# Altium footprint library PCB Library.PcbLib: 18 footprints (part 1 of 2)
Each footprint in its own frame and in the unit in brackets; x right, y up, seen from the top. Pads: shape width x height; smd on the part's side, far side on the other; paste and mask are expansions set on the pad; w line width, h text height; cw(c..) or ccw(c..) is an arc to the next point about the centre after c.
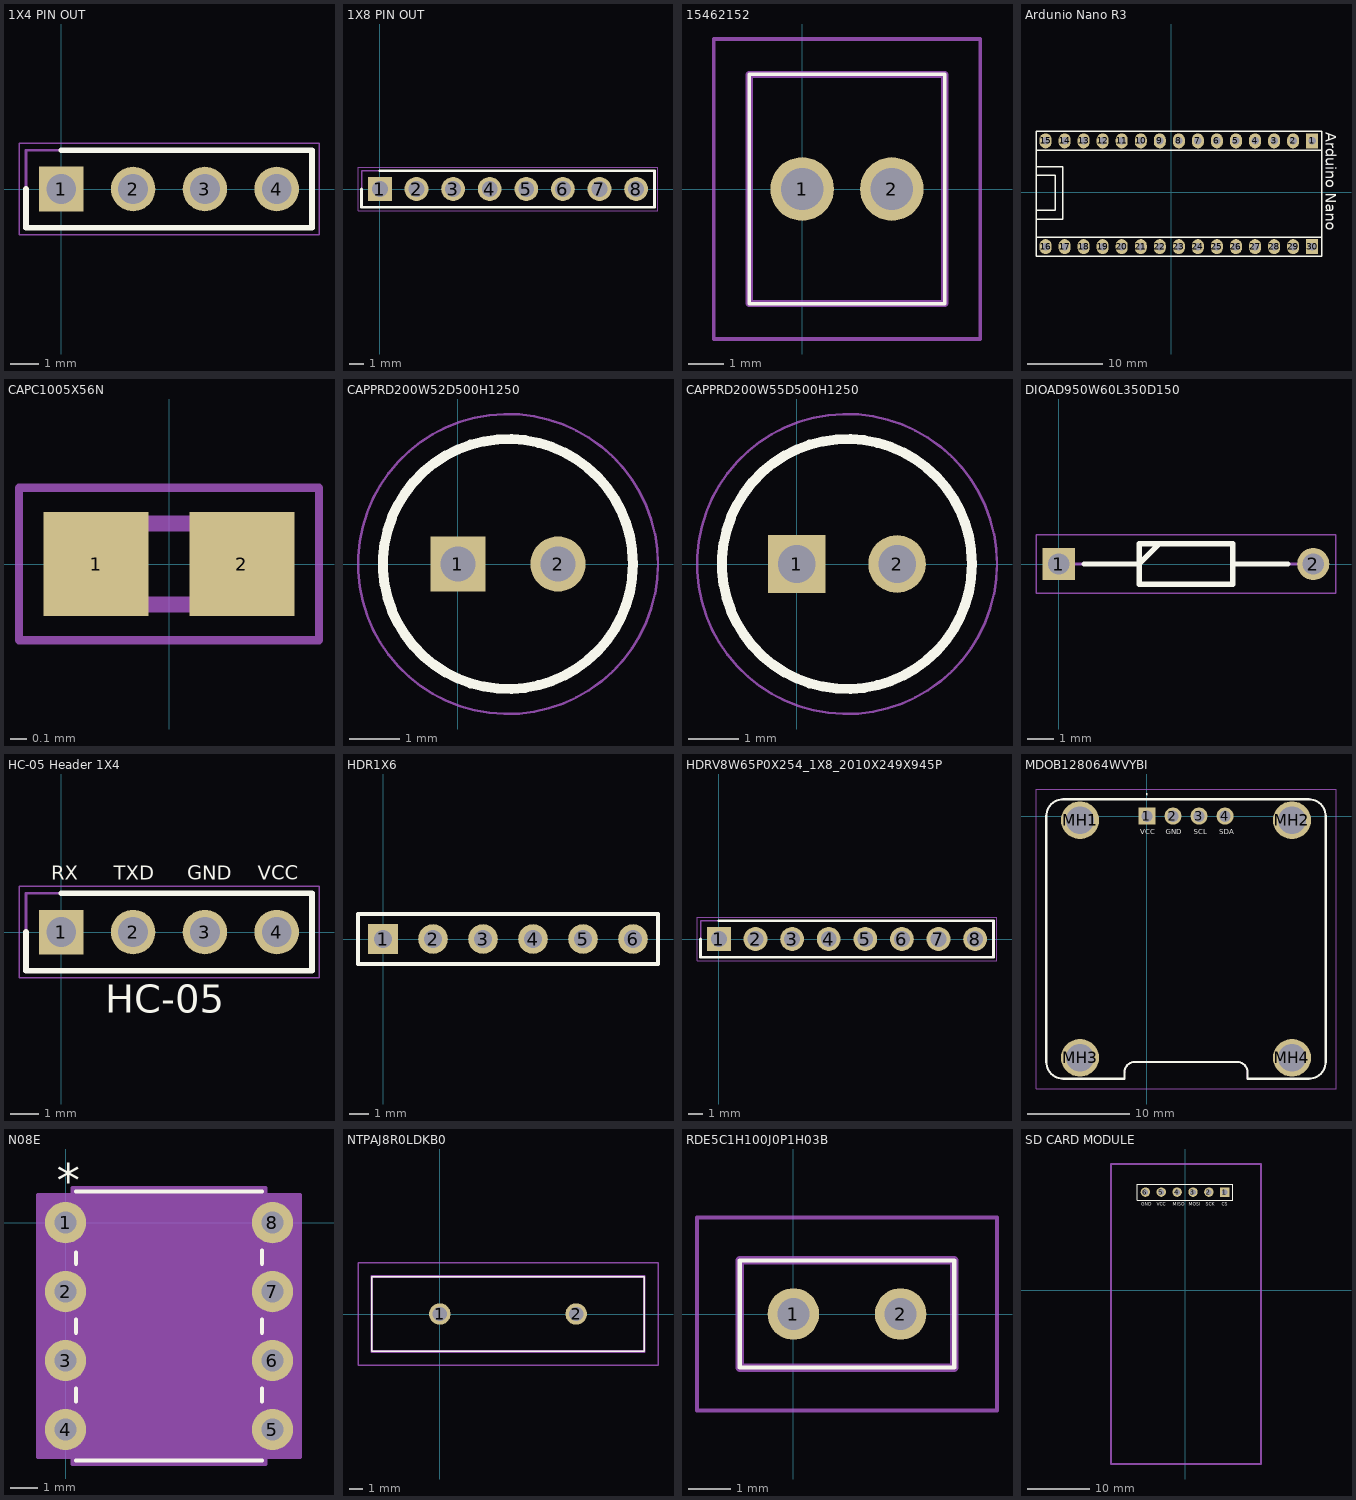
[diagram p0: the footprints below, top view; thin cyan lines are the x and y axes]

## 1X4 PIN OUT [mm]
pads (4):
  rect 1.575x1.575 hole 1.05: 1(0,0)
  round 1.575 hole 1.05: 2(2.54,0) 3(5.08,0) 4(7.62,0)
Top Overlay:
  lines w0.2: -1.245,0 -1.245,-1.37 8.865,-1.37 8.865,1.37 0,1.37
Mechanical 13:
  lines w0.1: -1.245,-1.37 8.865,-1.37 8.865,1.37 -1.245,1.37 -1.245,-1.37
Mechanical 15:
  lines w0.05: -1.495,-1.62 9.115,-1.62 9.115,1.62 -1.495,1.62 -1.495,-1.62
3D body "0022032041.stp": height 10.66, standoff -3.56, extent -1.153,-1.191 8.753,1.171

## 1X8 PIN OUT [mm]
pads (8):
  rect 1.65x1.65 hole 1.1: 1(0,0)
  round 1.65 hole 1.1: 2(2.54,0) 3(5.08,0) 4(7.62,0) 5(10.16,0) 6(12.7,0) 7(15.24,0) 8(17.78,0)
Top Overlay:
  lines w0.2: -1.27,0 -1.27,-1.27 19.05,-1.27 19.05,1.27 0,1.27
Mechanical 13:
  lines w0.1: -1.27,-1.27 19.05,-1.27 19.05,1.27 -1.27,1.27 -1.27,-1.27
Mechanical 15:
  lines w0.05: -1.52,-1.52 19.3,-1.52 19.3,1.52 -1.52,1.52 -1.52,-1.52
3D body "MOLEX,_C-GRID_III,_90120,_8_WAY,_1_ROW,_STRAIGHT_PIN_HEADER.stp": height 9.45, standoff -3.1, extent -1.158,-1.245 18.938,1.245

## 15462152 [mm]
pads (2):
  round 1.8 hole 1.2: 1(0,0) 2(2.54,0)
Top Overlay:
  lines w0.1: -1.5,-3.25 4.04,-3.25 4.04,3.25 -1.5,3.25 -1.5,-3.25
Mechanical 13:
  lines w0.2: -1.5,-3.25 4.04,-3.25 4.04,3.25 -1.5,3.25 -1.5,-3.25
Mechanical 15:
  lines w0.1: -2.5,-4.25 5.04,-4.25 5.04,4.25 -2.5,4.25 -2.5,-4.25
3D body "1546215-2.stp": height 9.91, standoff -3.49, extent -1.455,-3.25 3.995,3.25

## Ardunio Nano R3 [mm]
pads (30):
  rect 1.6x2 hole 1: 1(18.796,6.858) 30(18.796,-7.239)
  oval 1.6x2 hole 1: 2(16.256,6.858) 3(13.716,6.858) 4(11.176,6.858) 5(8.636,6.858) 6(6.096,6.858) 7(3.556,6.858) 8(1.016,6.858) 9(-1.524,6.858) 10(-4.064,6.858) 11(-6.604,6.858) 12(-9.144,6.858) 13(-11.684,6.858) 14(-14.224,6.858) 15(-16.764,6.858) 16(-16.764,-7.239) 17(-14.224,-7.239) 18(-11.684,-7.239) 19(-9.144,-7.239) 20(-6.604,-7.239) 21(-4.064,-7.239) 22(-1.524,-7.239) 23(1.016,-7.239) 24(3.556,-7.239) 25(6.096,-7.239) 26(8.636,-7.239) 27(11.176,-7.239) 28(13.716,-7.239) 29(16.256,-7.239)
Top Overlay:
  lines w0.2: -18.034,-7.493 -18.034,6.858 ; -18.034,-3.429 -18.034,-3.556 -14.478,-3.556 -14.478,3.429 -18.034,3.429 ; -18.034,-2.413 -15.494,-2.413 -15.494,2.286 -18.034,2.286 ; 20.066,-8.128 20.066,8.001 ; -18.034,-8.509 -18.034,-5.969 20.066,-5.969 20.066,-8.509 18.161,-8.509 -18.034,-8.509 ; -18.034,5.588 -18.034,8.128 20.066,8.128 20.066,5.588 18.161,5.588 -18.034,5.588
  text "Arduino Nano" at 20.574,8.001 h1.4

## CAPC1005X56N [mm]
pads (2):
  rect 0.65x0.64 smd: 1(-0.45,0) 2(0.45,0)
Mechanical 13:
  lines w0.1: -0.5,-0.25 0.5,-0.25 0.5,0.25 -0.5,0.25 -0.5,-0.25
Mechanical 15:
  lines w0.05: -0.925,-0.47 0.925,-0.47 0.925,0.47 -0.925,0.47 -0.925,-0.47
3D body "0402ZD225MAT2A.stp": height 0.56, standoff 0, extent -0.5,-0.25 0.5,0.25

## CAPPRD200W52D500H1250 [mm]
pads (2):
  rect 1.1x1.1 hole 0.7: 1(0,0)
  round 1.1 hole 0.7: 2(2,0)
Top Overlay:
  circle w0.2: c1,0 r2.5
Mechanical 13:
  circle w0.1: c1,0 r2.5
Mechanical 15:
  circle w0.05: c1,0 r3
3D body "860010772002.stp": height 12.5, standoff -10, extent -1.738,-2.747 3.75,2.747

## CAPPRD200W55D500H1250 [mm]
pads (2):
  rect 1.15x1.15 hole 0.75: 1(0,0)
  round 1.15 hole 0.75: 2(2,0)
Top Overlay:
  circle w0.2: c1,0 r2.5
Mechanical 13:
  circle w0.1: c1,0 r2.5
Mechanical 15:
  circle w0.05: c1,0 r3
3D body "EEU-FR1H100.stp": height 12.5, standoff -10, extent -1.738,-2.747 3.75,2.747

## DIOAD950W60L350D150 [mm]
pads (2):
  rect 1.2x1.2 hole 0.8: 1(0,0)
  round 1.2 hole 0.8: 2(9.5,0)
Top Overlay:
  lines w0.2: 0.95,0 3,0 3.75,0.75 ; 6.5,0 8.55,0 ; 3,-0.75 6.5,-0.75 6.5,0.75 3,0.75 3,-0.75
Mechanical 13:
  lines w0.1: 0,0 3,0 3.75,0.75 ; 6.5,0 9.5,0 ; 3,-0.75 6.5,-0.75 6.5,0.75 3,0.75 3,-0.75
Mechanical 15:
  lines w0.05: -0.85,-1.1 10.35,-1.1 10.35,1.1 -0.85,1.1 -0.85,-1.1
3D body "SD103A-TR.stp": height 1.7, standoff -1.7, extent -0.3,-0.844 9.8,0.844

## HC-05 Header 1X4 [mm]
pads (4):
  rect 1.575x1.575 hole 1.05: 1(0,0)
  round 1.575 hole 1.05: 2(2.54,0) 3(5.08,0) 4(7.62,0)
Top Overlay:
  lines w0.2: -1.245,0 -1.245,-1.37 8.865,-1.37 8.865,1.37 0,1.37
  text "VCC" at 6.954,1.854 h0.5
  text "GND" at 4.454,1.854 h0.5
  text "TXD" at 1.854,1.854 h0.5
  text "RX" at -0.346,1.854 h0.5
  text "HC-05" at 1.554,-2.846 h1
Mechanical 13:
  lines w0.1: -1.245,-1.37 -1.245,1.37 8.865,1.37 8.865,-1.37 -1.245,-1.37
Mechanical 15:
  lines w0.05: -1.495,-1.62 -1.495,1.62 9.115,1.62 9.115,-1.62 -1.495,-1.62
3D body "0022032041.stp": height 10.66, standoff -3.56, extent -1.153,-1.191 8.753,1.171

## HDR1X6 [mm] "Connector; Header; 6 Position"
pads (6):
  rect 1.5x1.5 hole 0.9: 1(0,0)
  round 1.5 hole 0.9: 2(2.54,0) 3(5.08,0) 4(7.62,0) 5(10.16,0) 6(12.7,0)
Top Overlay:
  lines w0.2: -1.27,-1.27 -1.27,1.27 13.97,1.27 13.97,-1.27 -1.27,-1.27

## HDRV8W65P0X254_1X8_2010X249X945P [mm]
pads (8):
  rect 1.65x1.65 hole 1.1: 1(0,0)
  round 1.65 hole 1.1: 2(2.54,0) 3(5.08,0) 4(7.62,0) 5(10.16,0) 6(12.7,0) 7(15.24,0) 8(17.78,0)
Top Overlay:
  lines w0.2: -1.27,0 -1.27,-1.27 19.05,-1.27 19.05,1.27 0,1.27
Mechanical 13:
  lines w0.1: -1.27,-1.27 19.05,-1.27 19.05,1.27 -1.27,1.27 -1.27,-1.27
Mechanical 15:
  lines w0.05: -1.52,-1.52 19.3,-1.52 19.3,1.52 -1.52,1.52 -1.52,-1.52
3D body "MOLEX,_C-GRID_III,_90120,_8_WAY,_1_ROW,_STRAIGHT_PIN_HEADER.stp": height 9.45, standoff -3.1, extent -1.158,-1.245 18.938,1.245

## MDOB128064WVYBI [mm]
pads (8):
  rect 1.665x1.665 hole 1.11: 1(0,0)
  round 1.665 hole 1.11: 2(2.54,0) 3(5.08,0) 4(7.62,0)
  round 3.7 hole 2.7: MH1(-6.54,-0.4) MH2(14.16,-0.4) MH3(-6.54,-23.6) MH4(14.16,-23.6)
Top Overlay:
  lines w0.1: 0,2.1 ccw(c0,2.15) 0,2.2 ccw(c0,2.15) 0,2.1
  lines w0.2: -9.84,-24 ccw(c-8.19,-24) -8.19,-25.65 -2.19,-25.65 -2.19,-25 cw(c-1.19,-25) -1.19,-24 3.81,-24 8.81,-24 cw(c8.81,-25) 9.81,-25 9.81,-25.65 15.81,-25.65 ccw(c15.81,-24) 17.46,-24 17.46,-12 17.46,0 ccw(c15.81,0) 15.81,1.65 3.81,1.65 -8.19,1.65 ccw(c-8.19,0) -9.84,0 -9.84,-12 -9.84,-24
  text "VCC" at -0.646,-1.746 h0.5
  text "GND" at 1.854,-1.746 h0.5
  text "SCL" at 4.554,-1.746 h0.5
  text "SDA" at 7.054,-1.746 h0.5
Mechanical 13:
  lines w0.1: -9.84,-24 ccw(c-8.19,-24) -8.19,-25.65 -2.19,-25.65 -2.19,-25 cw(c-1.19,-25) -1.19,-24 3.81,-24 8.81,-24 cw(c8.81,-25) 9.81,-25 9.81,-25.65 15.81,-25.65 ccw(c15.81,-24) 17.46,-24 17.46,-12 17.46,0 ccw(c15.81,0) 15.81,1.65 3.81,1.65 -8.19,1.65 ccw(c-8.19,0) -9.84,0 -9.84,-12 -9.84,-24
Mechanical 15:
  lines w0.1: -10.84,-26.65 18.46,-26.65 18.46,2.65 -10.84,2.65 -10.84,-26.65

## N08E [mil]
pads (8):
  round 60 / inner round 60 / far side rect 60x60 hole 32 paste-30 mask+0: 1(0,0)
  round 60 hole 32 paste-30 mask+0: 2(0,-100) 3(0,-200) 4(0,-300) 5(300,-300) 6(300,-200) 7(300,-100) 8(300,0)
Top Overlay:
  lines w6: 15,-345 285,-345 ; 15,-259.59 15,-240.41 ; 15,-159.59 15,-140.41 ; 15,-59.59 15,-43.1 ; 15,45 285,45 ; 285,-259.59 285,-240.41 ; 285,-159.59 285,-140.41 ; 285,-59.59 285,-40.41
  text "*" at -12.5,35 h50
Mechanical 13:
  lines w0: 138,40 ccw(c150,40) 162,40
  lines w1: -16,-316 -16,-284 20,-284 20,-316 -16,-316 ; -16,-216 -16,-184 20,-184 20,-216 -16,-216 ; -16,-116 -16,-84 20,-84 20,-116 -16,-116 ; -16,-16 -16,16 20,16 20,-16 -16,-16 ; 20,-340 280,-340 280,40 20,40 20,-340 ; 280,-316 280,-284 316,-284 316,-316 280,-316 ; 280,-216 280,-184 316,-184 316,-216 280,-216 ; 280,-116 280,-84 316,-84 316,-116 280,-116 ; 280,-16 280,16 316,16 316,-16 280,-16
  text "*" at 17.5,-25 h50
Mechanical 15:
  region: 290,-340 340,-340 340,40 290,40 290,50 10,50 10,40 -40,40 -40,-340 10,-340 10,-350 290,-350
  lines w6: -40,-340 -40,40 10,40 10,50 290,50 290,40 340,40 340,-340 290,-340 290,-350 10,-350 10,-340 -40,-340
3D body "N08E.step": height 215.12, standoff -100, extent -5,-340 315,40

## NTPAJ8R0LDKB0 [mm]
pads (2):
  round 1.575 hole 1.05: 1(0,0) 2(10,0)
Top Overlay:
  lines w0.1: -5,-2.75 -5,2.75 15,2.75 15,-2.75 -5,-2.75
Mechanical 13:
  lines w0.2: -5,-2.75 -5,2.75 15,2.75 15,-2.75 -5,-2.75
Mechanical 15:
  lines w0.1: -6,-3.75 -6,3.75 16,3.75 16,-3.75 -6,-3.75
3D body "NTPAJ8R0LDKB0.stp": height 20.1, standoff -5, extent -5,-2.75 15,2.75

## RDE5C1H100J0P1H03B [mm]
pads (2):
  round 1.2 hole 0.75: 1(0,0) 2(2.5,0)
Top Overlay:
  lines w0.1: -1.25,-1.25 3.75,-1.25 3.75,1.25 -1.25,1.25 -1.25,-1.25
Mechanical 13:
  lines w0.2: -1.25,-1.25 3.75,-1.25 3.75,1.25 -1.25,1.25 -1.25,-1.25
Mechanical 15:
  lines w0.1: -2.25,-2.25 4.75,-2.25 4.75,2.25 -2.25,2.25 -2.25,-2.25
3D body "RDER71E104K0P1H03B.stp": height 6.75, standoff -21.75, extent -2.671,-1.25 5.171,1.25

## SD CARD MODULE [mm]
pads (6):
  rect 1.5x1.5 hole 0.9: 1(6.3,15.7)
  round 1.5 hole 0.9: 2(3.76,15.7) 3(1.22,15.7) 4(-1.32,15.7) 5(-3.86,15.7) 6(-6.4,15.7)
Top Overlay:
  lines w0.2: -7.67,14.43 7.57,14.43 7.57,16.97 -7.67,16.97 -7.67,14.43
  text "GND" at -7.046,13.554 h0.5
  text "VCC" at -4.546,13.554 h0.5
  text "MISO" at -2.046,13.554 h0.5
  text "MOSI" at 0.554,13.554 h0.5
  text "SCK" at 3.254,13.554 h0.5
  text "CS" at 5.854,13.554 h0.5
Mechanical 15:
  lines w0.254: -11.9,-27.8 -11.9,20.2 -11.7,20.2 0.1,20.2 12.1,20.2 12.1,-27.4 12.1,-27.8 -11.9,-27.8